# EAGLE library part W2SG0084I (library IC)
20-pin SMD GPS Module, Man. Part Number-- W2SG0084i, Manufacturer-- Wi2Wi Inc., Interface-- UART, VCC -- 3.3 V, Op. Temp. Range--(-40)->85 C, Storage Temp. Range-- (-40)->150 C
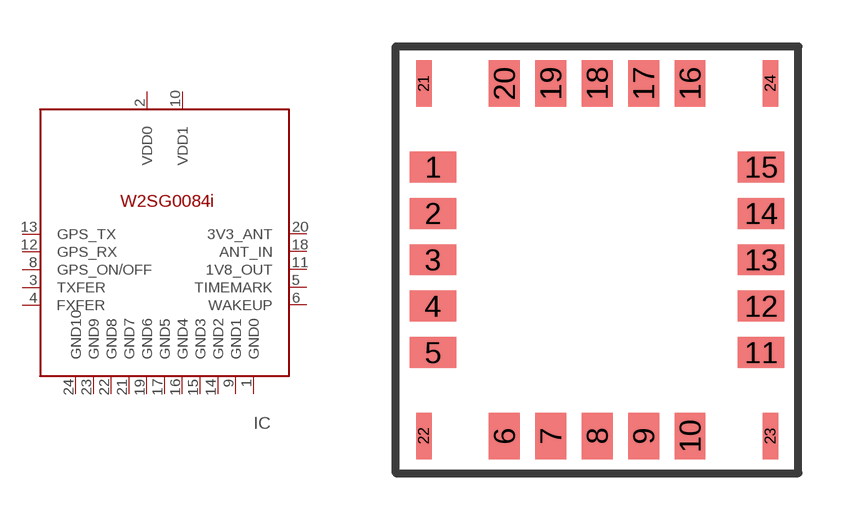
[diagram p192: symbol with the pads of W2SG0084I; footprint W2SG0084I]

Designator prefix IC

## W2SG0084I  [W2SG0084I]
1  GND0
2  VDD0
3  TXFER
4  FXFER
5  TIMEMARK
6  WAKEUP
8  GPS_ON/OFF
9  GND1
10  VDD1
11  1V8_OUT
12  GPS_RX
13  GPS_TX
14  GND2
15  GND3
16  GND4
17  GND5
18  ANT_IN
19  GND6
20  3V3_ANT
21  GND7
22  GND8
23  GND9
24  GND10

## Footprint W2SG0084I (pad centres in mm)
GPS Module-- 20 Pin, Manufacturer-- wi2wi
smd 1.5 x 1: 1 -5.3,3; 2 -5.3,1.5; 3 -5.3,0; 4 -5.3,-1.5; 5 -5.3,-3; 11 5.3,-3; 12 5.3,-1.5; 13 5.3,0; 14 5.3,1.5; 15 5.3,3
smd 1 x 1.5: 6 -3,-5.7; 7 -1.5,-5.7; 8 0,-5.7; 9 1.5,-5.7; 10 3,-5.7; 16 3,5.7; 17 1.5,5.7; 18 0,5.7; 19 -1.5,5.7; 20 -3,5.7
smd 0.5 x 1.5: 21 -5.6,5.7; 22 -5.6,-5.7; 23 5.6,-5.7; 24 5.6,5.7